# Altium footprint library Sensirion.PcbLib: 4 footprints
Each footprint in its own frame and in the unit in brackets; x right, y up, seen from the top. Pads: shape width x height; smd on the part's side, far side on the other; paste and mask are expansions set on the pad; w line width, h text height; cw(c..) or ccw(c..) is an arc to the next point about the centre after c.
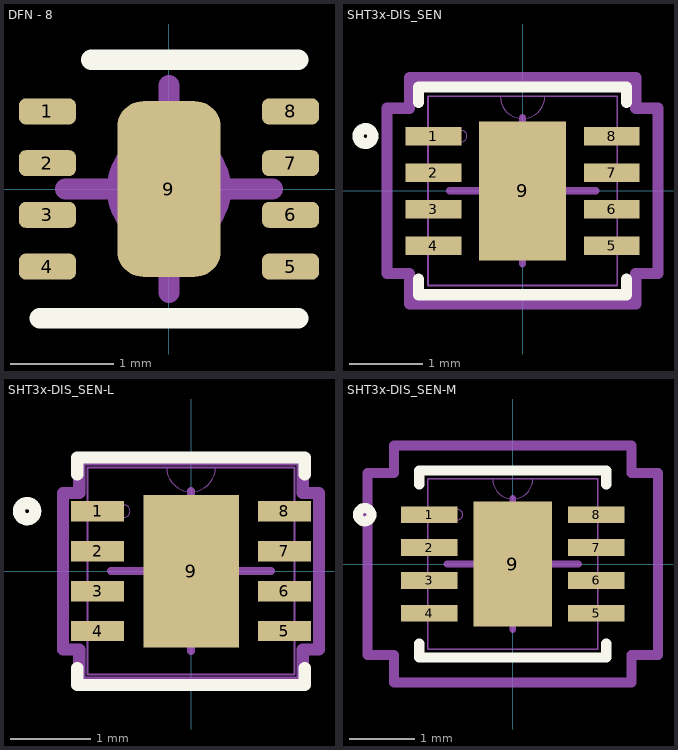
[diagram p0: the footprints below, top view; thin cyan lines are the x and y axes]

## DFN - 8 [mm]
pads (9):
  rrect50% 0.55x0.25 smd: 1(-1.175,0.75) 2(-1.175,0.25) 3(-1.175,-0.25) 4(-1.175,-0.75) 5(1.175,-0.75) 6(1.175,-0.25) 7(1.175,0.25) 8(1.175,0.75)
  rrect50% 1x1.7 smd: 9(0,0)
Top Overlay:
  lines w0.2: -1.25,-1.25 1.25,-1.25 ; -0.75,1.25 1.25,1.25
Mechanical 15:
  circle w0.2: c0,0 r0.5
  lines w0.2: -1,0 0,0 ; 0,-1 0,0 ; 0,1 0,0 ; 1,0 0,0
3D body "User Library-SHT3x.STEP": height 0.9, standoff -0.01, extent -1.26,-1.25 1.26,1.25

## SHT3x-DIS_SEN [mil]
pads (9):
  rect 30x10 smd: 1(-48,29.53) 2(-48,9.84) 3(-48,-9.84) 4(-48,-29.53) 5(48,-29.53) 6(48,-9.84) 7(48,9.84) 8(48,29.53)
  rect 47x75 smd: 9(0,0)
Top Overlay:
  circle w6: c-84.69,29.53 r4
  lines w6: -56,-47.63 -56,-56 56,-56 56,-47.63 ; -56,47.63 -56,56 56,56 56,47.63
Mechanical 13:
  circle w0: c-33,29.53 r3
  lines w0: -12,51 ccw(c0,51) 12,51
  lines w1: -51,-51 -51,51 51,51 51,-51 -51,-51
Mechanical 15:
  circle w3.94: c0,0 r19.68
  lines w3.94: -39.37,0 0,0 ; 0,-39.37 0,0 ; 0,39.37 0,0 ; 39.37,0 0,0
  lines w6: -73,-44.53 -61,-44.53 -61,-61 61,-61 61,-44.53 73,-44.53 73,44.53 61,44.53 61,61 -61,61 -61,44.53 -73,44.53 -73,-44.53
3D body "User Library-SHT3x.STEP": height 35.43, standoff -0.39, extent -49.6,-49.21 49.61,49.22

## SHT3x-DIS_SEN-L [mil]
pads (9):
  rect 26x10 smd: 1(-46,29.53) 2(-46,9.84) 3(-46,-9.84) 4(-46,-29.53) 5(46,-29.53) 6(46,-9.84) 7(46,9.84) 8(46,29.53)
  rect 47x75 smd: 9(0,0)
Top Overlay:
  circle w6: c-80.69,29.53 r4
  lines w6: -56,-47.63 -56,-56 56,-56 56,-47.63 ; -56,47.63 -56,56 56,56 56,47.63
Mechanical 13:
  circle w0: c-33,29.53 r3
  lines w0: -12,51 ccw(c0,51) 12,51
  lines w1: -51,-51 -51,51 51,51 51,-51 -51,-51
Mechanical 15:
  circle w3.94: c0,0 r19.68
  lines w3.94: -39.37,0 0,0 ; 0,-39.37 0,0 ; 0,39.37 0,0 ; 39.37,0 0,0
  lines w6: -63,-38.53 -55,-38.53 -55,-55 55,-55 55,-38.53 63,-38.53 63,38.53 55,38.53 55,55 -55,55 -55,38.53 -63,38.53 -63,-38.53
3D body "User Library-SHT3x.STEP": height 35.43, standoff -0.39, extent -49.6,-49.21 49.61,49.22

## SHT3x-DIS_SEN-M [mil]
pads (9):
  rect 34x10 smd: 1(-50,29.53) 2(-50,9.84) 3(-50,-9.84) 4(-50,-29.53) 5(50,-29.53) 6(50,-9.84) 7(50,9.84) 8(50,29.53)
  rect 47x75 smd: 9(0,0)
Top Overlay:
  circle w6: c-88.69,29.53 r4
  lines w6: -56,-47.63 -56,-56 56,-56 56,-47.63 ; -56,47.63 -56,56 56,56 56,47.63
Mechanical 13:
  circle w0: c-33,29.53 r3
  lines w0: -12,51 ccw(c0,51) 12,51
  lines w1: -51,-51 -51,51 51,51 51,-51 -51,-51
Mechanical 15:
  circle w3.94: c0,0 r19.68
  lines w3.94: -39.37,0 0,0 ; 0,-39.37 0,0 ; 0,39.37 0,0 ; 39.37,0 0,0
  lines w6: -87,-54.53 -71,-54.53 -71,-71 71,-71 71,-54.53 87,-54.53 87,54.53 71,54.53 71,71 -71,71 -71,54.53 -87,54.53 -87,-54.53
3D body "User Library-SHT3x.STEP": height 35.43, standoff -0.39, extent -49.6,-49.21 49.61,49.22